# Altium footprint library S-PBGA-N367.PcbLib: 1 footprints
Each footprint in its own frame and in the unit in brackets; x right, y up, seen from the top. Pads: shape width x height; smd on the part's side, far side on the other; paste and mask are expansions set on the pad; w line width, h text height; cw(c..) or ccw(c..) is an arc to the next point about the centre after c.
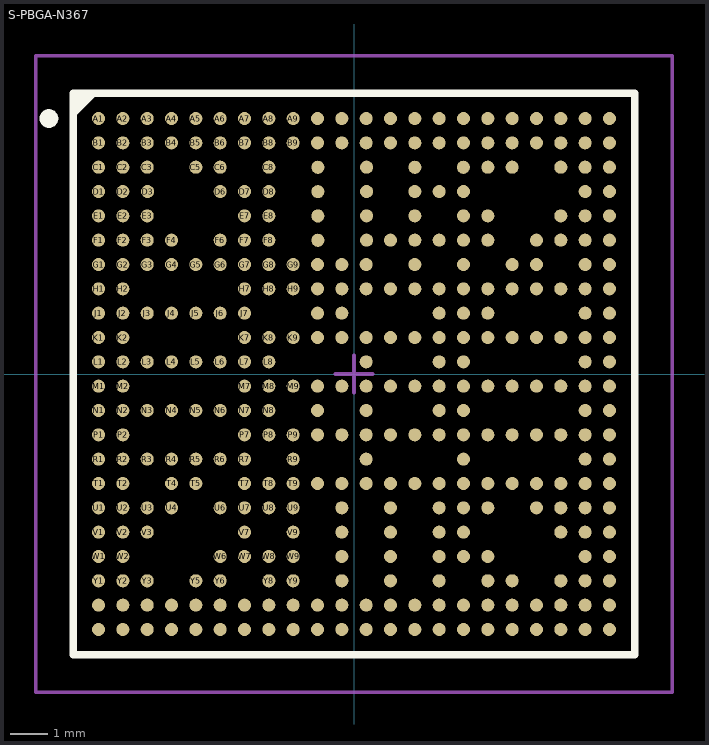
[diagram p0: the footprint, top view; thin cyan lines are the x and y axes]

## S-PBGA-N367 [mm] "15mm x 15mm  Package  (ABF) 367 FCBGA Plastic Grid Array 2.82 mm max height"
height 2.82
pads (367):
  round 0.35 smd mask+0.05: A1(-6.825,6.825) A2(-6.175,6.825) A3(-5.525,6.825) A4(-4.875,6.825) A5(-4.225,6.825) A6(-3.575,6.825) A7(-2.925,6.825) A8(-2.275,6.825) A9(-1.625,6.825) A10(-0.975,6.825) A11(-0.325,6.825) A12(0.325,6.825) A13(0.975,6.825) A14(1.625,6.825) A15(2.275,6.825) A16(2.925,6.825) A17(3.575,6.825) A18(4.225,6.825) A19(4.875,6.825) A20(5.525,6.825) A21(6.175,6.825) A22(6.825,6.825) AA1(-6.825,-6.175) AA2(-6.175,-6.175) AA3(-5.525,-6.175) AA4(-4.875,-6.175) AA5(-4.225,-6.175) AA6(-3.575,-6.175) AA7(-2.925,-6.175) AA8(-2.275,-6.175) AA9(-1.625,-6.175) AA10(-0.975,-6.175) AA11(-0.325,-6.175) AA12(0.325,-6.175) AA13(0.975,-6.175) AA14(1.625,-6.175) AA15(2.275,-6.175) AA16(2.925,-6.175) AA17(3.575,-6.175) AA18(4.225,-6.175) AA19(4.875,-6.175) AA20(5.525,-6.175) AA21(6.175,-6.175) AA22(6.825,-6.175) AB1(-6.825,-6.825) AB2(-6.175,-6.825) AB3(-5.525,-6.825) AB4(-4.875,-6.825) AB5(-4.225,-6.825) AB6(-3.575,-6.825) AB7(-2.925,-6.825) AB8(-2.275,-6.825) AB9(-1.625,-6.825) AB10(-0.975,-6.825) AB11(-0.325,-6.825) AB12(0.325,-6.825) AB13(0.975,-6.825) AB14(1.625,-6.825) AB15(2.275,-6.825) AB16(2.925,-6.825) AB17(3.575,-6.825) AB18(4.225,-6.825) AB19(4.875,-6.825) AB20(5.525,-6.825) AB21(6.175,-6.825) AB22(6.825,-6.825) B1(-6.825,6.175) B2(-6.175,6.175) B3(-5.525,6.175) B4(-4.875,6.175) B5(-4.225,6.175) B6(-3.575,6.175) B7(-2.925,6.175) B8(-2.275,6.175) B9(-1.625,6.175) B10(-0.975,6.175) B11(-0.325,6.175) B12(0.325,6.175) B13(0.975,6.175) B14(1.625,6.175) B15(2.275,6.175) B16(2.925,6.175) B17(3.575,6.175) B18(4.225,6.175) B19(4.875,6.175) B20(5.525,6.175) B21(6.175,6.175) B22(6.825,6.175) C1(-6.825,5.525) C2(-6.175,5.525) C3(-5.525,5.525) C5(-4.225,5.525) C6(-3.575,5.525) C8(-2.275,5.525) C10(-0.965,5.522) C12(0.335,5.525) C14(1.626,5.522) C16(2.921,5.522) C17(3.575,5.525) C18(4.225,5.525) C20(5.525,5.525) C21(6.175,5.525) C22(6.825,5.525) D1(-6.825,4.875) D2(-6.175,4.875) D3(-5.515,4.875) D6(-3.575,4.875) D7(-2.925,4.875) D8(-2.275,4.875) D10(-0.965,4.872) D12(0.335,4.875) D14(1.625,4.875) D15(2.275,4.875) D16(2.925,4.875) D21(6.175,4.875) D22(6.825,4.875) E1(-6.825,4.225) E2(-6.175,4.225) E3(-5.525,4.225) E7(-2.925,4.225) E8(-2.275,4.225) E10(-0.965,4.222) E12(0.335,4.225) E14(1.625,4.225) E16(2.925,4.225) E17(3.575,4.225) E20(5.525,4.225) E21(6.175,4.225) E22(6.825,4.225) F1(-6.825,3.575) F2(-6.175,3.575) F3(-5.525,3.575) F4(-4.875,3.575) F6(-3.575,3.575) F7(-2.925,3.575) F8(-2.275,3.575) F10(-0.965,3.572) F12(0.335,3.575) F13(0.975,3.575) F14(1.625,3.575) F15(2.275,3.575) F16(2.925,3.575) F17(3.575,3.575) F19(4.875,3.575) F20(5.525,3.575) F21(6.175,3.575) F22(6.825,3.575) G1(-6.825,2.925) G2(-6.175,2.925) G3(-5.525,2.925) G4(-4.875,2.925) G5(-4.225,2.925) G6(-3.575,2.925) G7(-2.925,2.925) G8(-2.275,2.925) G9(-1.625,2.925) G10(-0.975,2.925) G11(-0.325,2.925) G12(0.325,2.925) G14(1.625,2.925) G16(2.925,2.925) G18(4.225,2.925) G19(4.875,2.925) G21(6.175,2.925) G22(6.825,2.925) H1(-6.825,2.275) H2(-6.175,2.275) H7(-2.925,2.275) H8(-2.275,2.275) H9(-1.625,2.275) H10(-0.975,2.275) H11(-0.325,2.275) H12(0.325,2.275) H13(0.975,2.275) H14(1.625,2.275) H15(2.275,2.275) H16(2.925,2.275) H17(3.575,2.275) H18(4.225,2.275) H19(4.875,2.275) H20(5.525,2.275) H21(6.175,2.275) H22(6.825,2.275) J1(-6.825,1.625) J2(-6.175,1.625) J3(-5.525,1.625) J4(-4.875,1.625) J5(-4.225,1.625) J6(-3.575,1.625) J7(-2.925,1.625) J10(-0.975,1.625) J11(-0.325,1.625) J15(2.275,1.625) J16(2.925,1.625) J17(3.575,1.625) J21(6.175,1.625) J22(6.825,1.625) K1(-6.825,0.975) K2(-6.175,0.975) K7(-2.925,0.975) K8(-2.275,0.975) K9(-1.625,0.975) K10(-0.975,0.975) K11(-0.325,0.975) K12(0.325,0.975) K13(0.975,0.975) K14(1.625,0.975) K15(2.275,0.975) K16(2.925,0.975) K17(3.575,0.975) K18(4.225,0.975) K19(4.875,0.975) K20(5.525,0.975) K21(6.175,0.975) K22(6.825,0.975) L1(-6.825,0.325) L2(-6.175,0.325) L3(-5.525,0.325) L4(-4.875,0.325) L5(-4.225,0.325) L6(-3.575,0.325) L7(-2.925,0.325) L8(-2.275,0.325) L12(0.325,0.325) L15(2.275,0.325) L16(2.925,0.325) L21(6.175,0.325) L22(6.825,0.325) M1(-6.825,-0.325) M2(-6.175,-0.325) M7(-2.925,-0.325) M8(-2.275,-0.325) M9(-1.625,-0.325) M10(-0.975,-0.325) M11(-0.325,-0.325) M12(0.325,-0.325) M13(0.975,-0.325) M14(1.625,-0.325) M15(2.275,-0.325) M16(2.925,-0.325) M17(3.575,-0.325) M18(4.225,-0.325) M19(4.875,-0.325) M20(5.525,-0.325) M21(6.175,-0.325) M22(6.825,-0.325) N1(-6.825,-0.975) N2(-6.175,-0.975) N3(-5.525,-0.975) N4(-4.875,-0.975) N5(-4.225,-0.975) N6(-3.575,-0.975) N7(-2.925,-0.975) N8(-2.275,-0.975) N10(-0.975,-0.975) N12(0.325,-0.975) N15(2.275,-0.975) N16(2.925,-0.975) N21(6.175,-0.975) N22(6.825,-0.975) P1(-6.825,-1.625) P2(-6.175,-1.625) P7(-2.925,-1.625) P8(-2.275,-1.625) P9(-1.625,-1.625) P10(-0.975,-1.625) P11(-0.325,-1.625) P12(0.325,-1.625) P13(0.975,-1.625) P14(1.625,-1.625) P15(2.275,-1.625) P16(2.925,-1.625) P17(3.575,-1.625) P18(4.225,-1.625) P19(4.875,-1.625) P20(5.525,-1.625) P21(6.175,-1.625) P22(6.825,-1.625) R1(-6.825,-2.275) R2(-6.175,-2.275) R3(-5.525,-2.275) R4(-4.875,-2.275) R5(-4.225,-2.275) R6(-3.575,-2.275) R7(-2.925,-2.275) R9(-1.625,-2.275) R12(0.325,-2.275) R16(2.925,-2.275) R21(6.175,-2.275) R22(6.825,-2.275) T1(-6.825,-2.925) T2(-6.175,-2.925) T4(-4.875,-2.925) T5(-4.225,-2.925) T7(-2.925,-2.925) T8(-2.275,-2.925) T9(-1.625,-2.925) T10(-0.975,-2.925) T11(-0.325,-2.925) T12(0.325,-2.925) T13(0.975,-2.925) T14(1.625,-2.925) T15(2.275,-2.925) T16(2.925,-2.925) T17(3.575,-2.925) T18(4.225,-2.925) T19(4.875,-2.925) T20(5.525,-2.925) T21(6.175,-2.925) T22(6.825,-2.925) U1(-6.825,-3.575) U2(-6.175,-3.575) U3(-5.525,-3.575) U4(-4.875,-3.575) U6(-3.575,-3.575) U7(-2.925,-3.575) U8(-2.275,-3.575) U9(-1.625,-3.575) U11(-0.325,-3.575) U13(0.975,-3.575) U15(2.275,-3.575) U16(2.925,-3.575) U17(3.575,-3.575) U19(4.875,-3.575) U20(5.525,-3.575) U21(6.175,-3.575) U22(6.825,-3.575) V1(-6.825,-4.225) V2(-6.175,-4.225) V3(-5.525,-4.225) V7(-2.925,-4.225) V9(-1.625,-4.225) V11(-0.325,-4.225) V13(0.975,-4.225) V15(2.275,-4.225) V16(2.925,-4.225) V20(5.525,-4.225) V21(6.175,-4.225) V22(6.825,-4.225) W1(-6.825,-4.875) W2(-6.175,-4.875) W6(-3.575,-4.875) W7(-2.925,-4.875) W8(-2.275,-4.875) W9(-1.625,-4.875) W11(-0.325,-4.875) W13(0.975,-4.875) W15(2.275,-4.875) W16(2.925,-4.875) W17(3.575,-4.875) W21(6.175,-4.875) W22(6.825,-4.875) Y1(-6.825,-5.525) Y2(-6.175,-5.525) Y3(-5.525,-5.525) Y5(-4.225,-5.525) Y6(-3.575,-5.525) Y8(-2.275,-5.525) Y9(-1.625,-5.525) Y11(-0.325,-5.525) Y13(0.975,-5.525) Y15(2.275,-5.525) Y17(3.575,-5.525) Y18(4.225,-5.525) Y20(5.525,-5.525) Y21(6.175,-5.525) Y22(6.825,-5.525)
Top Overlay:
  circle w0.25: c-8.15,6.825 r0.125
  region: -6.97,7.5 -7.5,6.97 -7.5,7.5
  lines w0.2: -7.5,6.97 -6.97,7.5 ; -7.5,-7.5 7.5,-7.5 7.5,7.5 -7.5,7.5 -7.5,-7.5
Mechanical 13:
  lines w0.1: -7.5,-7.5 7.5,-7.5 7.5,7.5 -7.5,7.5 -7.5,-7.5
Mechanical 15:
  lines w0.1: -0.5,0 0.5,0 ; 0,-0.5 0,0.5 ; -8.5,-8.5 8.5,-8.5 8.5,8.5 -8.5,8.5 -8.5,-8.5
3D body "ABF0367A.stp": height 2.54, standoff -0.05, extent -7.518,-7.507 7.482,7.493